# Altium schematic symbol library JST-6.SchLib: 1 symbol
Pins are listed as number, name and electrical type; pins without a type are passive.

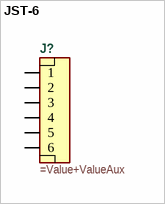
[diagram p0: symbol JST-6]

## JST-6
designator J?
=Description
pins: 1, 2, 3, 4, 5, 6